# Altium schematic symbol library ARCOM_Resistors.SchLib: 194 symbols (part 1 of 3)
Pins are listed as number, name and electrical type; pins without a type are passive.

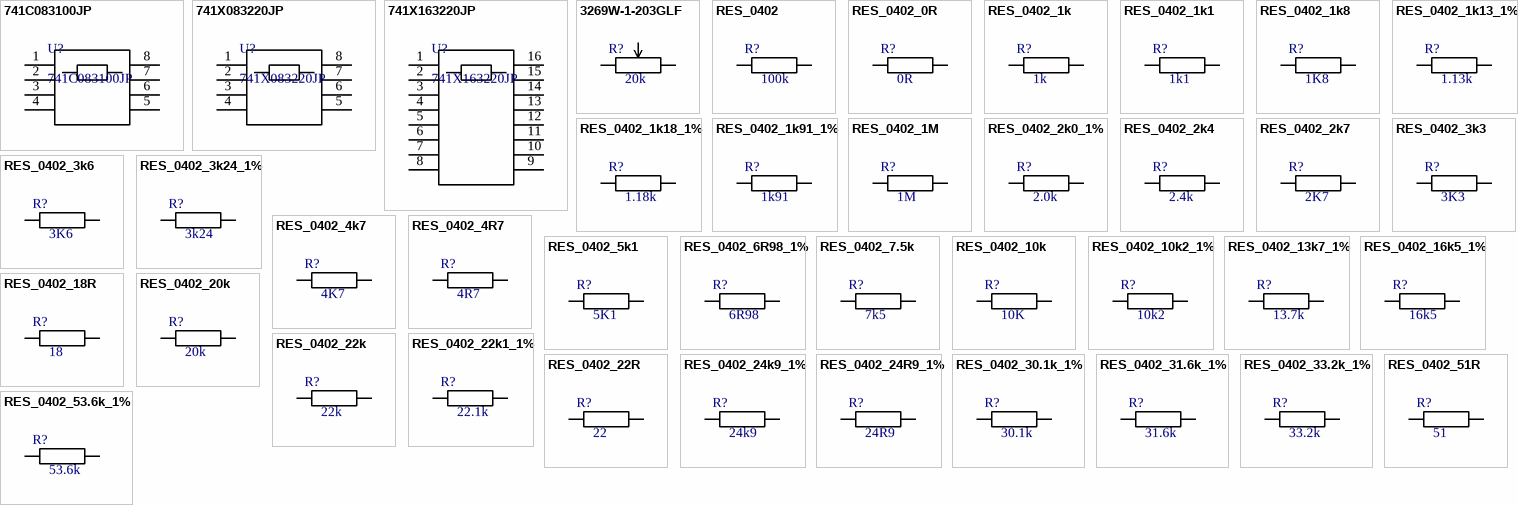
[diagram p0: symbols 741C083100JP to RES_0402_53.6k_1%]

## 741C083100JP
designator U?
Resistor Networks & Arrays 10ohms 5%; Manufacturer: CTS Electronic Components; ComponentLink1Description: Manufacturer; ComponentLink1URL: http://www.ctscorp.com/components/; ComponentLink2Description: Datasheet; ComponentLink2URL: http://www.mouser.com/ds/2/96/008-0335-0-369385.pdf; Manufacturer P/N: 741C083100JP; Part: 741C083100JP; Family: Resistor
footprint 742C083
pins: 1, 2, 3, 4, 5, 6, 7, 8

## 741X083220JP
designator U?
Resistor Networks & Arrays 22ohms 25V 5%; Manufacturer: CTS Electronic Components; ComponentLink1Description: Manufacturer; ComponentLink1URL: http://www.ctscorp.com/components/; ComponentLink2Description: Datasheet; ComponentLink2URL: http://www.mouser.com/ds/2/96/008-0335-0-369385.pdf; Manufacturer P/N: 741X083220JP; Part: 741X083220JP; Family: Resistor
footprint 741X083
pins: 1, 2, 3, 4, 5, 6, 7, 8

## 741X163220JP
designator U?
Resistor Networks & Arrays 22ohms 25V 5%; Manufacturer: CTS Electronic Components; ComponentLink1Description: Manufacturer; ComponentLink1URL: http://www.ctscorp.com/components/; ComponentLink2Description: Datasheet; ComponentLink2URL: http://www.mouser.com/ds/2/96/008-0335-0-369385.pdf; Manufacturer P/N: 741X163220JP; Part: 741X163220JP; Family: Resistor
footprint 741X163
pins: 1, 2, 3, 4, 5, 6, 7, 8, 9, 10, 11, 12, 13, 14, 15, 16

## 3269W-1-203GLF
designator R?  value 20k  (hidden comment: 3269W-1-203GLF)
Manufacturer: Bourns; Part: 20 Kohm, 10%tol.; ComponentLink1Description: Manufacturer; ComponentLink2Description: Datasheet; Manufacturer P/N: 3269W-1-203GLF; Family: Resistor
footprint Bourns_3269W
pins: 1, 2, 3

## RES_0402
designator R?  value 100k  (hidden comment: RES_0402)
Family: Resistor
pins: 1, 2

## RES_0402_0R
designator R?  value 0R  (hidden comment: RES_0402_0R)
Chip Resistor 0402  Size; Manufacturer: Cal-Chip Electronics Inc.; Manufacturer P/N: RM04J000CT; Part: 0 ohm Jumper; ComponentLink1Description: Manufacturer; ComponentLink1URL: http://www.calchip.com; ComponentLink2Description: Datasheet; ComponentLink2URL: https://www.opendatasheets.com/datasheet/rm06j823ct-cal-chip-electronics-25652085.html; Family: Resistor
footprint RESC0402(1005)_L (Chip Resistor, Body 1.0x0.5mm, IPC High Density)
footprint RESC0402(1005)_M (Chip Resistor, Body 1.0x0.5mm, IPC Low Density)
footprint RESC0402(1005)_N (Chip Resistor, Body 1.0x0.5mm, IPC Medium Density)
pins: 1, 2

## RES_0402_1k
designator R?  value 1k  (hidden comment: RES_0402_1k)
Chip Resistor 0402  Size; Manufacturer: Cal-Chip Electronics Inc.; Manufacturer P/N: RM04J102CT; Part: 1 Kohm, 5%tol.; ComponentLink1Description: Manufacturer; ComponentLink1URL: http://www.calchip.com; ComponentLink2Description: Datasheet; ComponentLink2URL: https://www.opendatasheets.com/datasheet/rm06j823ct-cal-chip-electronics-25652085.html; Family: Resistor
footprint RESC0402(1005)_L (Chip Resistor, Body 1.0x0.5mm, IPC High Density)
footprint RESC0402(1005)_M (Chip Resistor, Body 1.0x0.5mm, IPC Low Density)
footprint RESC0402(1005)_N (Chip Resistor, Body 1.0x0.5mm, IPC Medium Density)
pins: 1, 2

## RES_0402_1k1
designator R?  value 1k1  (hidden comment: RES_0402_1k1)
Chip Resistor 0402  Size; Manufacturer: Cal-Chip Electronics Inc.; Manufacturer P/N: RM04J112CT; Part: 1.1 Kohm, 5%tol.; ComponentLink1Description: Manufacturer; ComponentLink1URL: http://www.calchip.com; ComponentLink2Description: Datasheet; ComponentLink2URL: https://www.opendatasheets.com/datasheet/rm06j823ct-cal-chip-electronics-25652085.html; Family: Resistor
footprint RESC0402(1005)_L (Chip Resistor, Body 1.0x0.5mm, IPC High Density)
footprint RESC0402(1005)_M (Chip Resistor, Body 1.0x0.5mm, IPC Low Density)
footprint RESC0402(1005)_N (Chip Resistor, Body 1.0x0.5mm, IPC Medium Density)
pins: 1, 2

## RES_0402_1k8
designator R?  value 1K8  (hidden comment: RES_0402_1k8)
Chip Resistor 0402  Size; Manufacturer: Cal-Chip Electronics Inc.; Manufacturer P/N: RM04J182CT; Part: 1.8 Kohm, 5%tol.; ComponentLink1Description: Manufacturer; ComponentLink1URL: http://www.calchip.com; ComponentLink2Description: Datasheet; ComponentLink2URL: https://www.opendatasheets.com/datasheet/rm06j823ct-cal-chip-electronics-25652085.html; Family: Resistor
footprint RESC0402(1005)_L (Chip Resistor, Body 1.0x0.5mm, IPC High Density)
footprint RESC0402(1005)_M (Chip Resistor, Body 1.0x0.5mm, IPC Low Density)
footprint RESC0402(1005)_N (Chip Resistor, Body 1.0x0.5mm, IPC Medium Density)
pins: 1, 2

## RES_0402_1k13_1%
designator R?, comment value 1.13k  (hidden comment: RES_0402_1k13)
Chip Resistor 0402  Size; Manufacturer: Yageo; Manufacturer P/N: RC0402FR-071K13L; Part: 1.13 Kohm, 1%tol.; ComponentLink1Description: Manufacturer; ComponentLink2Description: Datasheet; Family: Resistor
footprint RESC0402(1005)_L (Chip Resistor, Body 1.0x0.5mm, IPC High Density)
footprint RESC0402(1005)_M (Chip Resistor, Body 1.0x0.5mm, IPC Low Density)
footprint RESC0402(1005)_N (Chip Resistor, Body 1.0x0.5mm, IPC Medium Density)
pins: 1, 2

## RES_0402_1k18_1%
designator R?, comment value 1.18k  (hidden comment: RES_0402_1k18)
Chip Resistor 0402  Size; Manufacturer: Yageo; Manufacturer P/N: RC0402FR-071K18L; Part: 1.18 Kohm, 1%tol.; ComponentLink1Description: Manufacturer; ComponentLink2Description: Datasheet; Family: Resistor
footprint RESC0402(1005)_L (Chip Resistor, Body 1.0x0.5mm, IPC High Density)
footprint RESC0402(1005)_M (Chip Resistor, Body 1.0x0.5mm, IPC Low Density)
footprint RESC0402(1005)_N (Chip Resistor, Body 1.0x0.5mm, IPC Medium Density)
pins: 1, 2

## RES_0402_1k91_1%
designator R?, comment value 1k91  (hidden comment: RES_0402_1.91k)
Chip Resistor 0402  Size; Manufacturer: Cal-Chip Electronics Inc.; Manufacturer P/N: RM04F1911CT-LF; Part: 1.91 Kohm, 1%tol.; .Checked: 20180529; ComponentLink1Description: Manufacturer; ComponentLink1URL: http://www.calchipelectronics.com; ComponentLink2Description: Datasheet; ComponentLink2URL: https://www.opendatasheets.com/datasheet/rm06j823ct-cal-chip-electronics-25652085.html; Family: Resistor; ComponentLink3Description: Datasheet2; ComponentLink3URL: http://www.calchipelectronics.com/pdf/rm_series.pdf
footprint RESC0402(1005)_L (Chip Resistor, Body 1.0x0.5mm, IPC High Density)
footprint RESC0402(1005)_M (Chip Resistor, Body 1.0x0.5mm, IPC Low Density)
footprint RESC0402(1005)_N (Chip Resistor, Body 1.0x0.5mm, IPC Medium Density)
pins: 1, 2

## RES_0402_1M
designator R?  value 1M  (hidden comment: RES_0402_1M)
Chip Resistor 0402  Size; Manufacturer: Cal-Chip Electronics Inc.; Manufacturer P/N: RM04J105CT; Part: 1 MOhm, 5%tol.; ComponentLink1Description: Manufacturer; ComponentLink1URL: http://www.calchip.com; ComponentLink2Description: Datasheet; ComponentLink2URL: https://www.opendatasheets.com/datasheet/rm06j823ct-cal-chip-electronics-25652085.html; Family: Resistor
footprint RESC0402(1005)_L (Chip Resistor, Body 1.0x0.5mm, IPC High Density)
footprint RESC0402(1005)_M (Chip Resistor, Body 1.0x0.5mm, IPC Low Density)
footprint RESC0402(1005)_N (Chip Resistor, Body 1.0x0.5mm, IPC Medium Density)
pins: 1, 2

## RES_0402_2k0_1%
designator R?  value 2.0k  (hidden comment: RES_0402_2k0_1%)
Chip Resistor 0402  Size; Manufacturer P/N: RC0402FR-072KL; Part: 2.0 Kohm, 1%tol.; ComponentLink1Description: Manufacturer; ComponentLink2Description: Datasheet; Family: Resistor
footprint RESC0402(1005)_L (Chip Resistor, Body 1.0x0.5mm, IPC High Density)
footprint RESC0402(1005)_M (Chip Resistor, Body 1.0x0.5mm, IPC Low Density)
footprint RESC0402(1005)_N (Chip Resistor, Body 1.0x0.5mm, IPC Medium Density)
pins: 1, 2

## RES_0402_2k4
designator R?  value 2.4k  (hidden comment: RES_0402_2k4)
Chip Resistor 0402  Size; Manufacturer: Cal-Chip Electronics Inc.; Manufacturer P/N: RM04J242CT; Part: 2.4 kOhm, 5%tol.; ComponentLink1Description: Manufacturer; ComponentLink1URL: http://www.calchip.com; ComponentLink2Description: Datasheet; ComponentLink2URL: https://www.opendatasheets.com/datasheet/rm06j823ct-cal-chip-electronics-25652085.html; Family: Resistor
footprint RESC0402(1005)_L (Chip Resistor, Body 1.0x0.5mm, IPC High Density)
footprint RESC0402(1005)_M (Chip Resistor, Body 1.0x0.5mm, IPC Low Density)
footprint RESC0402(1005)_N (Chip Resistor, Body 1.0x0.5mm, IPC Medium Density)
pins: 1, 2

## RES_0402_2k7
designator R?  value 2K7  (hidden comment: RES_0402_2k7)
Chip Resistor 0402  Size; Manufacturer: Cal-Chip Electronics Inc.; Manufacturer P/N: RM04J272CT; Part: 2.7 Kohm, 5%tol.; ComponentLink1Description: Manufacturer; ComponentLink1URL: http://www.calchip.com; ComponentLink2Description: Datasheet; ComponentLink2URL: https://www.opendatasheets.com/datasheet/rm06j823ct-cal-chip-electronics-25652085.html; Family: Resistor
footprint RESC0402(1005)_L (Chip Resistor, Body 1.0x0.5mm, IPC High Density)
footprint RESC0402(1005)_M (Chip Resistor, Body 1.0x0.5mm, IPC Low Density)
footprint RESC0402(1005)_N (Chip Resistor, Body 1.0x0.5mm, IPC Medium Density)
pins: 1, 2

## RES_0402_3k3
designator R?  value 3K3  (hidden comment: RES_0402_3k3)
Chip Resistor 0402  Size; Manufacturer: Cal-Chip Electronics Inc.; Manufacturer P/N: RM04J332CT; Part: 3.3 Kohm, 5%tol.; ComponentLink1Description: Manufacturer; ComponentLink1URL: http://www.calchip.com; ComponentLink2Description: Datasheet; ComponentLink2URL: https://www.opendatasheets.com/datasheet/rm06j823ct-cal-chip-electronics-25652085.html; Family: Resistor
footprint RESC0402(1005)_L (Chip Resistor, Body 1.0x0.5mm, IPC High Density)
footprint RESC0402(1005)_M (Chip Resistor, Body 1.0x0.5mm, IPC Low Density)
footprint RESC0402(1005)_N (Chip Resistor, Body 1.0x0.5mm, IPC Medium Density)
pins: 1, 2

## RES_0402_3k6
designator R?  value 3K6  (hidden comment: RES_0402_3k6)
Chip Resistor 0402  Size; Manufacturer: Cal-Chip Electronics Inc.; Manufacturer P/N: RM04J362CT; Part: 3.6 Kohm, 5%tol.; ComponentLink1Description: Manufacturer; ComponentLink1URL: http://www.calchip.com; ComponentLink2Description: Datasheet; ComponentLink2URL: https://www.opendatasheets.com/datasheet/rm06j823ct-cal-chip-electronics-25652085.html; Family: Resistor
footprint RESC0402(1005)_L (Chip Resistor, Body 1.0x0.5mm, IPC High Density)
footprint RESC0402(1005)_M (Chip Resistor, Body 1.0x0.5mm, IPC Low Density)
footprint RESC0402(1005)_N (Chip Resistor, Body 1.0x0.5mm, IPC Medium Density)
pins: 1, 2

## RES_0402_3k24_1%
designator R?, comment value 3k24  (hidden comment: RES_0402_3.24k)
Chip Resistor 0402  Size; Manufacturer: Cal-Chip Electronics Inc.; Manufacturer P/N: RM04F3242CT-LF; Part: 3.24 Kohm, 1%tol.; .Checked: 20180221; ComponentLink1Description: Manufacturer; ComponentLink1URL: http://www.calchipelectronics.com; ComponentLink2Description: Datasheet; ComponentLink2URL: https://www.opendatasheets.com/datasheet/rm06j823ct-cal-chip-electronics-25652085.html; Family: Resistor; ComponentLink3Description: Datasheet2; ComponentLink3URL: http://www.calchipelectronics.com/pdf/rm_series.pdf
footprint RESC0402(1005)_L (Chip Resistor, Body 1.0x0.5mm, IPC High Density)
footprint RESC0402(1005)_M (Chip Resistor, Body 1.0x0.5mm, IPC Low Density)
footprint RESC0402(1005)_N (Chip Resistor, Body 1.0x0.5mm, IPC Medium Density)
pins: 1, 2

## RES_0402_4k7
designator R?  value 4K7  (hidden comment: RES_0402_4k7)
Chip Resistor 0402  Size; Manufacturer: Cal-Chip Electronics Inc.; Manufacturer P/N: RM04J472CT; Part: 4.7 Kohm, 5%tol.; ComponentLink1Description: Manufacturer; ComponentLink1URL: http://www.calchip.com; ComponentLink2Description: Datasheet; ComponentLink2URL: https://www.opendatasheets.com/datasheet/rm06j823ct-cal-chip-electronics-25652085.html; Family: Resistor
footprint RESC0402(1005)_L (Chip Resistor, Body 1.0x0.5mm, IPC High Density)
footprint RESC0402(1005)_M (Chip Resistor, Body 1.0x0.5mm, IPC Low Density)
footprint RESC0402(1005)_N (Chip Resistor, Body 1.0x0.5mm, IPC Medium Density)
pins: 1, 2

## RES_0402_4R7
designator R?  value 4R7  (hidden comment: RES_0402_4R7)
Chip Resistor 0402  Size; Manufacturer: Cal-Chip Electronics Inc.; Manufacturer P/N: RM04J4R7CT; Part: 4.7 Ohm, 5%tol.; ComponentLink1Description: Manufacturer; ComponentLink1URL: http://www.calchip.com; ComponentLink2Description: Datasheet; ComponentLink2URL: https://www.opendatasheets.com/datasheet/rm06j823ct-cal-chip-electronics-25652085.html; Family: Resistor
footprint RESC0402(1005)_L (Chip Resistor, Body 1.0x0.5mm, IPC High Density)
footprint RESC0402(1005)_M (Chip Resistor, Body 1.0x0.5mm, IPC Low Density)
footprint RESC0402(1005)_N (Chip Resistor, Body 1.0x0.5mm, IPC Medium Density)
pins: 1, 2

## RES_0402_5k1
designator R?  value 5K1  (hidden comment: RES_0402_5k1)
Chip Resistor 0402  Size; Manufacturer: Cal-Chip Electronics Inc.; Manufacturer P/N: RM04J512CT; Part: 5.1 Kohm, 5%tol.; ComponentLink1Description: Manufacturer; ComponentLink1URL: http://www.calchip.com; ComponentLink2Description: Datasheet; ComponentLink2URL: https://www.opendatasheets.com/datasheet/rm06j823ct-cal-chip-electronics-25652085.html; Family: Resistor
footprint RESC0402(1005)_L (Chip Resistor, Body 1.0x0.5mm, IPC High Density)
footprint RESC0402(1005)_M (Chip Resistor, Body 1.0x0.5mm, IPC Low Density)
footprint RESC0402(1005)_N (Chip Resistor, Body 1.0x0.5mm, IPC Medium Density)
pins: 1, 2

## RES_0402_6R98_1%
designator R?, comment value 6R98  (hidden comment: RES_0402_6R98)
Chip Resistor 0402  Size; Manufacturer: Cal-Chip Electronics Inc.; Manufacturer P/N: RM04F6R98CT-LF; Part: 6.98 ohm, 1%tol.; ComponentLink1Description: Manufacturer; ComponentLink1URL: http://www.calchip.com; ComponentLink2Description: Datasheet; ComponentLink2URL: https://www.opendatasheets.com/datasheet/rm06j823ct-cal-chip-electronics-25652085.html; Family: Resistor
footprint RESC0402(1005)_L (Chip Resistor, Body 1.0x0.5mm, IPC High Density)
footprint RESC0402(1005)_M (Chip Resistor, Body 1.0x0.5mm, IPC Low Density)
footprint RESC0402(1005)_N (Chip Resistor, Body 1.0x0.5mm, IPC Medium Density)
pins: 1, 2

## RES_0402_7.5k
designator R?  value 7k5  (hidden comment: RES_0402_7.5k)
Chip Resistor 0402  Size; Manufacturer: Cal-Chip Electronics Inc.; Manufacturer P/N: RM04J752CT; Part: 7.5 kOhm, 5%tol.; ComponentLink1Description: Manufacturer; ComponentLink1URL: http://www.calchip.com; ComponentLink2Description: Datasheet; ComponentLink2URL: https://www.opendatasheets.com/datasheet/rm06j823ct-cal-chip-electronics-25652085.html; Family: Resistor
footprint RESC0402(1005)_L (Chip Resistor, Body 1.0x0.5mm, IPC High Density)
footprint RESC0402(1005)_M (Chip Resistor, Body 1.0x0.5mm, IPC Low Density)
footprint RESC0402(1005)_N (Chip Resistor, Body 1.0x0.5mm, IPC Medium Density)
pins: 1, 2

## RES_0402_10k
designator R?  value 10K  (hidden comment: RES_0402_10k)
Chip Resistor 0402  Size; Manufacturer: Cal-Chip Electronics Inc.; Manufacturer P/N: RM04J103CT; Part: 10 Kohm, 5%tol.; ComponentLink1Description: Manufacturer; ComponentLink1URL: http://www.calchip.com; ComponentLink2Description: Datasheet; ComponentLink2URL: https://www.opendatasheets.com/datasheet/rm06j823ct-cal-chip-electronics-25652085.html; Family: Resistor
footprint RESC0402(1005)_L (Chip Resistor, Body 1.0x0.5mm, IPC High Density)
footprint RESC0402(1005)_M (Chip Resistor, Body 1.0x0.5mm, IPC Low Density)
footprint RESC0402(1005)_N (Chip Resistor, Body 1.0x0.5mm, IPC Medium Density)
pins: 1, 2

## RES_0402_10k2_1%
designator R?, comment value 10k2  (hidden comment: RES_0402_10.2k)
Chip Resistor 0402  Size; Manufacturer: Cal-Chip Electronics Inc.; Manufacturer P/N: RM04F1022CT-LF; Part: 10.2 Kohm, 1%tol.; .Checked: 20180221; ComponentLink1Description: Manufacturer; ComponentLink1URL: http://www.calchipelectronics.com; ComponentLink2Description: Datasheet; ComponentLink2URL: https://www.opendatasheets.com/datasheet/rm06j823ct-cal-chip-electronics-25652085.html; Family: Resistor; ComponentLink3Description: Datasheet2; ComponentLink3URL: http://www.calchipelectronics.com/pdf/rm_series.pdf
footprint RESC0402(1005)_L (Chip Resistor, Body 1.0x0.5mm, IPC High Density)
footprint RESC0402(1005)_M (Chip Resistor, Body 1.0x0.5mm, IPC Low Density)
footprint RESC0402(1005)_N (Chip Resistor, Body 1.0x0.5mm, IPC Medium Density)
pins: 1, 2

## RES_0402_13k7_1%
designator R?, comment value 13.7k  (hidden comment: RES_0402_13k7)
Chip Resistor 0402  Size; Manufacturer: Cal-Chip Electronics Inc.; Manufacturer P/N: RM04F1372CT-LF; Part: 13.7 Kohm, 1%tol.; ComponentLink1Description: Manufacturer; ComponentLink1URL: http://www.calchip.com; ComponentLink2Description: Datasheet; ComponentLink2URL: https://www.opendatasheets.com/datasheet/rm06j823ct-cal-chip-electronics-25652085.html; Family: Resistor
footprint RESC0402(1005)_L (Chip Resistor, Body 1.0x0.5mm, IPC High Density)
footprint RESC0402(1005)_M (Chip Resistor, Body 1.0x0.5mm, IPC Low Density)
footprint RESC0402(1005)_N (Chip Resistor, Body 1.0x0.5mm, IPC Medium Density)
pins: 1, 2

## RES_0402_16k5_1%
designator R?, comment value 16k5  (hidden comment: RES_0402_16.5k)
Chip Resistor 0402  Size; Manufacturer: Cal-Chip Electronics Inc.; Manufacturer P/N: RM04F1652CT-LF; Part: 16.5 Kohm, 1%tol.; .Checked: 20180221; ComponentLink1Description: Manufacturer; ComponentLink1URL: http://www.calchipelectronics.com; ComponentLink2Description: Datasheet; ComponentLink2URL: https://www.opendatasheets.com/datasheet/rm06j823ct-cal-chip-electronics-25652085.html; Family: Resistor; ComponentLink3Description: Datasheet2; ComponentLink3URL: http://www.calchipelectronics.com/pdf/rm_series.pdf
footprint RESC0402(1005)_L (Chip Resistor, Body 1.0x0.5mm, IPC High Density)
footprint RESC0402(1005)_M (Chip Resistor, Body 1.0x0.5mm, IPC Low Density)
footprint RESC0402(1005)_N (Chip Resistor, Body 1.0x0.5mm, IPC Medium Density)
pins: 1, 2

## RES_0402_18R
designator R?  value 18  (hidden comment: RES_0402_18R)
Chip Resistor 0402  Size; Manufacturer: Cal-Chip Electronics Inc.; Manufacturer P/N: RM04J180CT; Part: 18 Ohm, 5%tol.; ComponentLink1Description: Manufacturer; ComponentLink1URL: http://www.calchip.com; ComponentLink2Description: Datasheet; ComponentLink2URL: https://www.opendatasheets.com/datasheet/rm06j823ct-cal-chip-electronics-25652085.html; Family: Resistor
footprint RESC0402(1005)_L (Chip Resistor, Body 1.0x0.5mm, IPC High Density)
footprint RESC0402(1005)_M (Chip Resistor, Body 1.0x0.5mm, IPC Low Density)
footprint RESC0402(1005)_N (Chip Resistor, Body 1.0x0.5mm, IPC Medium Density)
pins: 1, 2

## RES_0402_20k
designator R?  value 20k  (hidden comment: RES_0402_20k)
Chip Resistor 0402  Size; Manufacturer: Cal-Chip Electronics Inc.; Manufacturer P/N: RM04J203CT; Part: 20 Kohm, 5%tol.; ComponentLink1Description: Manufacturer; ComponentLink1URL: http://www.calchip.com; ComponentLink2Description: Datasheet; ComponentLink2URL: https://www.opendatasheets.com/datasheet/rm06j823ct-cal-chip-electronics-25652085.html; Family: Resistor
footprint RESC0402(1005)_L (Chip Resistor, Body 1.0x0.5mm, IPC High Density)
footprint RESC0402(1005)_M (Chip Resistor, Body 1.0x0.5mm, IPC Low Density)
footprint RESC0402(1005)_N (Chip Resistor, Body 1.0x0.5mm, IPC Medium Density)
pins: 1, 2

## RES_0402_22k
designator R?  value 22k  (hidden comment: RES_0402_22k)
Chip Resistor 0402  Size; Manufacturer: Cal-Chip Electronics Inc.; Manufacturer P/N: RM04J223CT; Part: 22 kOhm, 5%tol.; ComponentLink1Description: Manufacturer; ComponentLink1URL: http://www.calchip.com; ComponentLink2Description: Datasheet; ComponentLink2URL: https://www.opendatasheets.com/datasheet/rm06j823ct-cal-chip-electronics-25652085.html; Family: Resistor
footprint RESC0402(1005)_L (Chip Resistor, Body 1.0x0.5mm, IPC High Density)
footprint RESC0402(1005)_M (Chip Resistor, Body 1.0x0.5mm, IPC Low Density)
footprint RESC0402(1005)_N (Chip Resistor, Body 1.0x0.5mm, IPC Medium Density)
pins: 1, 2

## RES_0402_22k1_1%
designator R?, comment value 22.1k  (hidden comment: RES_0402_22k1)
Chip Resistor 0402  Size; Manufacturer: Cal-Chip Electronics Inc.; Manufacturer P/N: RM04F2212CT-LF; Part: 22.1 Kohm, 1%tol.; ComponentLink1Description: Manufacturer; ComponentLink1URL: http://www.calchip.com; ComponentLink2Description: Datasheet; ComponentLink2URL: https://www.opendatasheets.com/datasheet/rm06j823ct-cal-chip-electronics-25652085.html; Family: Resistor
footprint RESC0402(1005)_L (Chip Resistor, Body 1.0x0.5mm, IPC High Density)
footprint RESC0402(1005)_M (Chip Resistor, Body 1.0x0.5mm, IPC Low Density)
footprint RESC0402(1005)_N (Chip Resistor, Body 1.0x0.5mm, IPC Medium Density)
pins: 1, 2

## RES_0402_22R
designator R?  value 22  (hidden comment: RES_0402_22R)
Chip Resistor 0402  Size; Manufacturer: Cal-Chip Electronics Inc.; Manufacturer P/N: RM04J220CT; Part: 22 Ohm, 5%tol.; ComponentLink1Description: Manufacturer; ComponentLink1URL: http://www.calchip.com; ComponentLink2Description: Datasheet; ComponentLink2URL: https://www.opendatasheets.com/datasheet/rm06j823ct-cal-chip-electronics-25652085.html; Family: Resistor
footprint RESC0402(1005)_L (Chip Resistor, Body 1.0x0.5mm, IPC High Density)
footprint RESC0402(1005)_M (Chip Resistor, Body 1.0x0.5mm, IPC Low Density)
footprint RESC0402(1005)_N (Chip Resistor, Body 1.0x0.5mm, IPC Medium Density)
pins: 1, 2

## RES_0402_24k9_1%
designator R?  value 24k9  (hidden comment: RES_0402_24k9_1%)
Chip Resistor 0402  Size; Manufacturer P/N: RM04F2492CT-LF; Part: 24.9 Kohm, 1%tol.; ComponentLink1Description: Manufacturer; ComponentLink2Description: Datasheet; Family: Resistor
footprint RESC0402(1005)_L (Chip Resistor, Body 1.0x0.5mm, IPC High Density)
footprint RESC0402(1005)_M (Chip Resistor, Body 1.0x0.5mm, IPC Low Density)
footprint RESC0402(1005)_N (Chip Resistor, Body 1.0x0.5mm, IPC Medium Density)
pins: 1, 2

## RES_0402_24R9_1%
designator R?, comment value 24R9  (hidden comment: RES_0402_24R9)
Chip Resistor 0402  Size; Manufacturer: Cal-Chip Electronics Inc.; Manufacturer P/N: RM04F24R9CT-LF; Part: 24.9 ohm, 1%tol.; ComponentLink1Description: Manufacturer; ComponentLink1URL: http://www.calchip.com; ComponentLink2Description: Datasheet; ComponentLink2URL: https://www.opendatasheets.com/datasheet/rm06j823ct-cal-chip-electronics-25652085.html; Family: Resistor
footprint RESC0402(1005)_L (Chip Resistor, Body 1.0x0.5mm, IPC High Density)
footprint RESC0402(1005)_M (Chip Resistor, Body 1.0x0.5mm, IPC Low Density)
footprint RESC0402(1005)_N (Chip Resistor, Body 1.0x0.5mm, IPC Medium Density)
pins: 1, 2

## RES_0402_30.1k_1%
designator R?, comment value 30.1k  (hidden comment: RES_0402_30.1k)
Chip Resistor 0402  Size; Manufacturer: Cal-Chip Electronics Inc.; Manufacturer P/N: RM04F3012CT-LF; Part: 30.1 Kohm, 1%tol.; ComponentLink1Description: Manufacturer; ComponentLink1URL: http://www.calchip.com; ComponentLink2Description: Datasheet; ComponentLink2URL: https://www.opendatasheets.com/datasheet/rm06j823ct-cal-chip-electronics-25652085.html; Family: Resistor
footprint RESC0402(1005)_L (Chip Resistor, Body 1.0x0.5mm, IPC High Density)
footprint RESC0402(1005)_M (Chip Resistor, Body 1.0x0.5mm, IPC Low Density)
footprint RESC0402(1005)_N (Chip Resistor, Body 1.0x0.5mm, IPC Medium Density)
pins: 1, 2

## RES_0402_31.6k_1%
designator R?, comment value 31.6k  (hidden comment: RES_0402_31.6k)
Chip Resistor 0402  Size; Manufacturer: Cal-Chip Electronics Inc.; Manufacturer P/N: RM04F3162CT-LF; Part: 31.6 Kohm, 1%tol.; ComponentLink1Description: Manufacturer; ComponentLink1URL: http://www.calchip.com; ComponentLink2Description: Datasheet; ComponentLink2URL: https://www.opendatasheets.com/datasheet/rm06j823ct-cal-chip-electronics-25652085.html; Family: Resistor
footprint RESC0402(1005)_L (Chip Resistor, Body 1.0x0.5mm, IPC High Density)
footprint RESC0402(1005)_M (Chip Resistor, Body 1.0x0.5mm, IPC Low Density)
footprint RESC0402(1005)_N (Chip Resistor, Body 1.0x0.5mm, IPC Medium Density)
pins: 1, 2

## RES_0402_33.2k_1%
designator R?, comment value 33.2k  (hidden comment: RES_0402_33.2k)
Chip Resistor 0402  Size; Manufacturer: Cal-Chip Electronics Inc.; Manufacturer P/N: RM04F3322CT-LF; Part: 33.2 Kohm, 1%tol.; ComponentLink1Description: Manufacturer; ComponentLink1URL: http://www.calchip.com; ComponentLink2Description: Datasheet; ComponentLink2URL: https://www.opendatasheets.com/datasheet/rm06j823ct-cal-chip-electronics-25652085.html; Family: Resistor
footprint RESC0402(1005)_L (Chip Resistor, Body 1.0x0.5mm, IPC High Density)
footprint RESC0402(1005)_M (Chip Resistor, Body 1.0x0.5mm, IPC Low Density)
footprint RESC0402(1005)_N (Chip Resistor, Body 1.0x0.5mm, IPC Medium Density)
pins: 1, 2

## RES_0402_51R
designator R?  value 51  (hidden comment: RES_0402_51R)
Chip Resistor 0402  Size; Manufacturer: Cal-Chip Electronics Inc.; Manufacturer P/N: RM04J510CT; Part: 51 Ohm, 5%tol.; ComponentLink1Description: Manufacturer; ComponentLink1URL: http://www.calchip.com; ComponentLink2Description: Datasheet; ComponentLink2URL: https://www.opendatasheets.com/datasheet/rm06j823ct-cal-chip-electronics-25652085.html; Family: Resistor
footprint RESC0402(1005)_L (Chip Resistor, Body 1.0x0.5mm, IPC High Density)
footprint RESC0402(1005)_M (Chip Resistor, Body 1.0x0.5mm, IPC Low Density)
footprint RESC0402(1005)_N (Chip Resistor, Body 1.0x0.5mm, IPC Medium Density)
pins: 1, 2

## RES_0402_53.6k_1%
designator R?, comment value 53.6k  (hidden comment: RES_0402_53.6k)
Chip Resistor 0402  Size; Manufacturer: Cal-Chip Electronics Inc.; Manufacturer P/N: RM04F5362CT-LF; Part: 53.6 Kohm, 1%tol.; ComponentLink1Description: Manufacturer; ComponentLink1URL: http://www.calchip.com; ComponentLink2Description: Datasheet; ComponentLink2URL: https://www.opendatasheets.com/datasheet/rm06j823ct-cal-chip-electronics-25652085.html; Family: Resistor
footprint RESC0402(1005)_L (Chip Resistor, Body 1.0x0.5mm, IPC High Density)
footprint RESC0402(1005)_M (Chip Resistor, Body 1.0x0.5mm, IPC Low Density)
footprint RESC0402(1005)_N (Chip Resistor, Body 1.0x0.5mm, IPC Medium Density)
pins: 1, 2

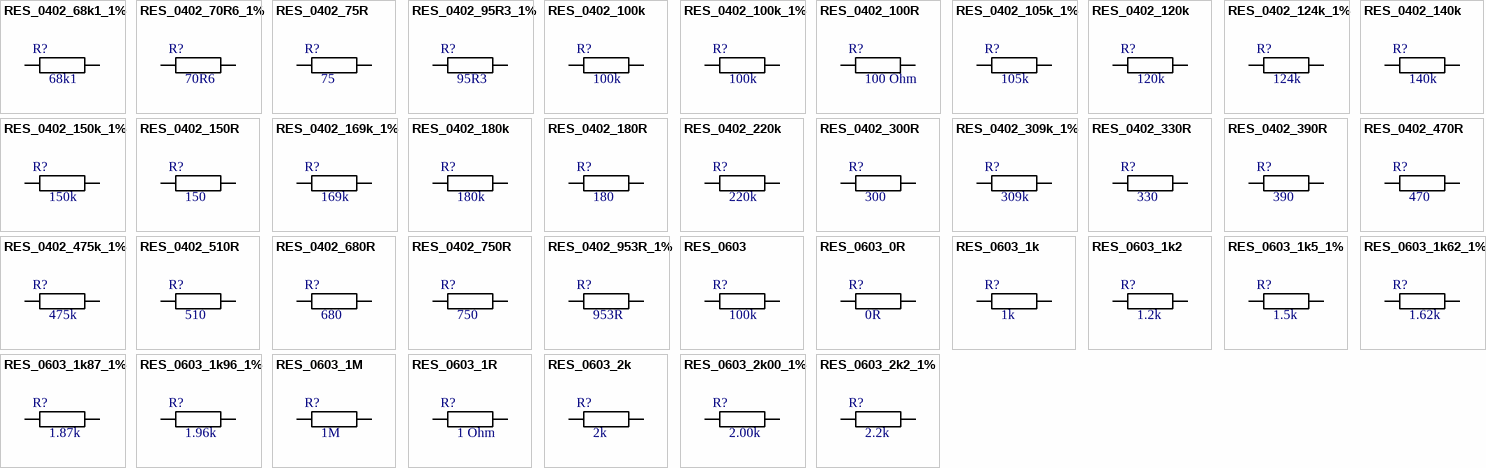
[diagram p1: symbols RES_0402_68k1_1% to RES_0603_2k2_1%]

## RES_0402_68k1_1%
designator R?, comment value 68k1  (hidden comment: RES_0402_68.1k)
Chip Resistor 0402  Size; Manufacturer: Cal-Chip Electronics Inc.; Manufacturer P/N: RM04F6812CT-LF; Part: 68.1 Kohm, 1%tol.; .Checked: 20180221; ComponentLink1Description: Manufacturer; ComponentLink1URL: http://www.calchipelectronics.com; ComponentLink2Description: Datasheet; ComponentLink2URL: https://www.opendatasheets.com/datasheet/rm06j823ct-cal-chip-electronics-25652085.html; Family: Resistor; ComponentLink3Description: Datasheet2; ComponentLink3URL: http://www.calchipelectronics.com/pdf/rm_series.pdf
footprint RESC0402(1005)_L (Chip Resistor, Body 1.0x0.5mm, IPC High Density)
footprint RESC0402(1005)_M (Chip Resistor, Body 1.0x0.5mm, IPC Low Density)
footprint RESC0402(1005)_N (Chip Resistor, Body 1.0x0.5mm, IPC Medium Density)
pins: 1, 2

## RES_0402_70R6_1%
designator R?, comment value 70R6  (hidden comment: RES_0402_70R6)
Chip Resistor 0402  Size; Manufacturer: Cal-Chip Electronics Inc.; Manufacturer P/N: RM04F70R6CT-LF; Part: 70.6 ohm, 1%tol.; ComponentLink1Description: Manufacturer; ComponentLink1URL: http://www.calchip.com; ComponentLink2Description: Datasheet; ComponentLink2URL: https://www.opendatasheets.com/datasheet/rm06j823ct-cal-chip-electronics-25652085.html; Family: Resistor
footprint RESC0402(1005)_L (Chip Resistor, Body 1.0x0.5mm, IPC High Density)
footprint RESC0402(1005)_M (Chip Resistor, Body 1.0x0.5mm, IPC Low Density)
footprint RESC0402(1005)_N (Chip Resistor, Body 1.0x0.5mm, IPC Medium Density)
pins: 1, 2

## RES_0402_75R
designator R?  value 75  (hidden comment: RES_0402_75R)
Chip Resistor 0402  Size; Manufacturer: Cal-Chip Electronics Inc.; Manufacturer P/N: RM04J750CT; Part: 75 Ohm, 5%tol.; ComponentLink1Description: Manufacturer; ComponentLink1URL: http://www.calchip.com; ComponentLink2Description: Datasheet; ComponentLink2URL: https://www.opendatasheets.com/datasheet/rm06j823ct-cal-chip-electronics-25652085.html; Family: Resistor
footprint RESC0402(1005)_L (Chip Resistor, Body 1.0x0.5mm, IPC High Density)
footprint RESC0402(1005)_M (Chip Resistor, Body 1.0x0.5mm, IPC Low Density)
footprint RESC0402(1005)_N (Chip Resistor, Body 1.0x0.5mm, IPC Medium Density)
pins: 1, 2

## RES_0402_95R3_1%
designator R?, comment value 95R3  (hidden comment: RES_0402_95R3)
Chip Resistor 0402  Size; Manufacturer: Cal-Chip Electronics Inc.; Manufacturer P/N: RM04F95R3CT-LF; Part: 95.3 ohm, 1%tol.; ComponentLink1Description: Manufacturer; ComponentLink1URL: http://www.calchip.com; ComponentLink2Description: Datasheet; ComponentLink2URL: https://www.opendatasheets.com/datasheet/rm06j823ct-cal-chip-electronics-25652085.html; Family: Resistor
footprint RESC0402(1005)_L (Chip Resistor, Body 1.0x0.5mm, IPC High Density)
footprint RESC0402(1005)_M (Chip Resistor, Body 1.0x0.5mm, IPC Low Density)
footprint RESC0402(1005)_N (Chip Resistor, Body 1.0x0.5mm, IPC Medium Density)
pins: 1, 2

## RES_0402_100k
designator R?  value 100k  (hidden comment: RES_0402_100k)
Chip Resistor 0402  Size; Manufacturer: Cal-Chip Electronics Inc.; Manufacturer P/N: RM04J104CT; Part: 100 kOhm, 5%tol.; ComponentLink1Description: Manufacturer; ComponentLink1URL: http://www.calchip.com; ComponentLink2Description: Datasheet; ComponentLink2URL: https://www.opendatasheets.com/datasheet/rm06j823ct-cal-chip-electronics-25652085.html; Family: Resistor
footprint RESC0402(1005)_L (Chip Resistor, Body 1.0x0.5mm, IPC High Density)
footprint RESC0402(1005)_M (Chip Resistor, Body 1.0x0.5mm, IPC Low Density)
footprint RESC0402(1005)_N (Chip Resistor, Body 1.0x0.5mm, IPC Medium Density)
pins: 1, 2

## RES_0402_100k_1%
designator R?  value 100k  (hidden comment: RES_0402_100k_1%)
Chip Resistor 0402  Size; Manufacturer P/N: RC0402FR-07100KL; Part: 100 Kohm, 1%tol.; ComponentLink1Description: Manufacturer; ComponentLink2Description: Datasheet; Family: Resistor
footprint RESC0402(1005)_L (Chip Resistor, Body 1.0x0.5mm, IPC High Density)
footprint RESC0402(1005)_M (Chip Resistor, Body 1.0x0.5mm, IPC Low Density)
footprint RESC0402(1005)_N (Chip Resistor, Body 1.0x0.5mm, IPC Medium Density)
pins: 1, 2

## RES_0402_100R
designator R?  value 100 Ohm  (hidden comment: RES_0402_100R)
Chip Resistor 0402  Size; Manufacturer: Cal-Chip Electronics Inc.; Manufacturer P/N: RM04J101CT; Part: 100 Ohm, 5%tol.; ComponentLink1Description: Manufacturer; ComponentLink1URL: http://www.calchip.com; ComponentLink2Description: Datasheet; ComponentLink2URL: https://www.opendatasheets.com/datasheet/rm06j823ct-cal-chip-electronics-25652085.html; Family: Resistor
footprint RESC0402(1005)_L (Chip Resistor, Body 1.0x0.5mm, IPC High Density)
footprint RESC0402(1005)_M (Chip Resistor, Body 1.0x0.5mm, IPC Low Density)
footprint RESC0402(1005)_N (Chip Resistor, Body 1.0x0.5mm, IPC Medium Density)
pins: 1, 2

## RES_0402_105k_1%
designator R?, comment value 105k  (hidden comment: RES_0402_105k)
Chip Resistor 0402  Size; Manufacturer: Cal-Chip Electronics Inc.; Manufacturer P/N: RM04F1053CT-LF; Part: 105 Kohm, 1%tol.; ComponentLink1Description: Manufacturer; ComponentLink1URL: http://www.calchip.com; ComponentLink2Description: Datasheet; ComponentLink2URL: https://www.opendatasheets.com/datasheet/rm06j823ct-cal-chip-electronics-25652085.html; Family: Resistor
footprint RESC0402(1005)_L (Chip Resistor, Body 1.0x0.5mm, IPC High Density)
footprint RESC0402(1005)_M (Chip Resistor, Body 1.0x0.5mm, IPC Low Density)
footprint RESC0402(1005)_N (Chip Resistor, Body 1.0x0.5mm, IPC Medium Density)
pins: 1, 2

## RES_0402_120k
designator R?  value 120k  (hidden comment: RES_0402_120k)
Chip Resistor 0402  Size; Manufacturer: Cal-Chip Electronics Inc.; Manufacturer P/N: RM04J124CT; Part: 120 kOhm, 5%tol.; ComponentLink1Description: Manufacturer; ComponentLink1URL: http://www.calchip.com; ComponentLink2Description: Datasheet; ComponentLink2URL: https://www.opendatasheets.com/datasheet/rm06j823ct-cal-chip-electronics-25652085.html; Family: Resistor
footprint RESC0402(1005)_L (Chip Resistor, Body 1.0x0.5mm, IPC High Density)
footprint RESC0402(1005)_M (Chip Resistor, Body 1.0x0.5mm, IPC Low Density)
footprint RESC0402(1005)_N (Chip Resistor, Body 1.0x0.5mm, IPC Medium Density)
pins: 1, 2

## RES_0402_124k_1%
designator R?, comment value 124k  (hidden comment: RES_0402_124k)
Chip Resistor 0402  Size; Manufacturer: Cal-Chip Electronics Inc.; Manufacturer P/N: RM04F1243CT-LF; Part: 124 Kohm, 1%tol.; ComponentLink1Description: Manufacturer; ComponentLink1URL: http://www.calchip.com; ComponentLink2Description: Datasheet; ComponentLink2URL: https://www.opendatasheets.com/datasheet/rm06j823ct-cal-chip-electronics-25652085.html; Family: Resistor
footprint RESC0402(1005)_L (Chip Resistor, Body 1.0x0.5mm, IPC High Density)
footprint RESC0402(1005)_M (Chip Resistor, Body 1.0x0.5mm, IPC Low Density)
footprint RESC0402(1005)_N (Chip Resistor, Body 1.0x0.5mm, IPC Medium Density)
pins: 1, 2

## RES_0402_140k
designator R?  value 140k  (hidden comment: RES_0402_140k)
Chip Resistor 0402  Size; Manufacturer: Cal-Chip Electronics Inc.; Manufacturer P/N: RM04J144CT; Part: 140 kOhm, 5%tol.; ComponentLink1Description: Manufacturer; ComponentLink1URL: http://www.calchip.com; ComponentLink2Description: Datasheet; ComponentLink2URL: https://www.opendatasheets.com/datasheet/rm06j823ct-cal-chip-electronics-25652085.html; Family: Resistor
footprint RESC0402(1005)_L (Chip Resistor, Body 1.0x0.5mm, IPC High Density)
footprint RESC0402(1005)_M (Chip Resistor, Body 1.0x0.5mm, IPC Low Density)
footprint RESC0402(1005)_N (Chip Resistor, Body 1.0x0.5mm, IPC Medium Density)
pins: 1, 2

## RES_0402_150k_1%
designator R?, comment value 150k  (hidden comment: RES_0402_150k)
Chip Resistor 0402  Size; Manufacturer: Cal-Chip Electronics Inc.; Manufacturer P/N: RM04F1503CT-LF; Part: 150 Kohm, 1%tol.; ComponentLink1Description: Manufacturer; ComponentLink1URL: http://www.calchip.com; ComponentLink2Description: Datasheet; ComponentLink2URL: https://www.opendatasheets.com/datasheet/rm06j823ct-cal-chip-electronics-25652085.html; Family: Resistor
footprint RESC0402(1005)_L (Chip Resistor, Body 1.0x0.5mm, IPC High Density)
footprint RESC0402(1005)_M (Chip Resistor, Body 1.0x0.5mm, IPC Low Density)
footprint RESC0402(1005)_N (Chip Resistor, Body 1.0x0.5mm, IPC Medium Density)
pins: 1, 2

## RES_0402_150R
designator R?  value 150  (hidden comment: RES_0402_150R)
Chip Resistor 0402  Size; Manufacturer: Cal-Chip Electronics Inc.; Manufacturer P/N: RM04J151CT; Part: 150 Ohm, 5%tol.; ComponentLink1Description: Manufacturer; ComponentLink1URL: http://www.calchip.com; ComponentLink2Description: Datasheet; ComponentLink2URL: https://www.opendatasheets.com/datasheet/rm06j823ct-cal-chip-electronics-25652085.html; Family: Resistor
footprint RESC0402(1005)_L (Chip Resistor, Body 1.0x0.5mm, IPC High Density)
footprint RESC0402(1005)_M (Chip Resistor, Body 1.0x0.5mm, IPC Low Density)
footprint RESC0402(1005)_N (Chip Resistor, Body 1.0x0.5mm, IPC Medium Density)
pins: 1, 2

## RES_0402_169k_1%
designator R?, comment value 169k  (hidden comment: RES_0402_169k)
Chip Resistor 0402  Size; Manufacturer: Cal-Chip Electronics Inc.; Manufacturer P/N: RM04F1693CT-LF; Part: 169 Kohm, 1%tol.; .Checked: 20180221; ComponentLink1Description: Manufacturer; ComponentLink1URL: http://www.calchipelectronics.com; ComponentLink2Description: Datasheet; ComponentLink2URL: https://www.opendatasheets.com/datasheet/rm06j823ct-cal-chip-electronics-25652085.html; Family: Resistor; ComponentLink3Description: Datasheet2; ComponentLink3URL: http://www.calchipelectronics.com/pdf/rm_series.pdf
footprint RESC0402(1005)_L (Chip Resistor, Body 1.0x0.5mm, IPC High Density)
footprint RESC0402(1005)_M (Chip Resistor, Body 1.0x0.5mm, IPC Low Density)
footprint RESC0402(1005)_N (Chip Resistor, Body 1.0x0.5mm, IPC Medium Density)
pins: 1, 2

## RES_0402_180k
designator R?  value 180k  (hidden comment: RES_0402_180k)
Chip Resistor 0402  Size; Manufacturer: Cal-Chip Electronics Inc.; Manufacturer P/N: RM04J184CT; Part: 180 kOhm, 5%tol.; ComponentLink1Description: Manufacturer; ComponentLink1URL: http://www.calchip.com; ComponentLink2Description: Datasheet; ComponentLink2URL: https://www.opendatasheets.com/datasheet/rm06j823ct-cal-chip-electronics-25652085.html; Family: Resistor
footprint RESC0402(1005)_L (Chip Resistor, Body 1.0x0.5mm, IPC High Density)
footprint RESC0402(1005)_M (Chip Resistor, Body 1.0x0.5mm, IPC Low Density)
footprint RESC0402(1005)_N (Chip Resistor, Body 1.0x0.5mm, IPC Medium Density)
pins: 1, 2

## RES_0402_180R
designator R?  value 180  (hidden comment: RES_0402_180R)
Chip Resistor 0402  Size; Manufacturer: Cal-Chip Electronics Inc.; Manufacturer P/N: RM04J181CT; Part: 180 Ohm, 5%tol.; ComponentLink1Description: Manufacturer; ComponentLink1URL: http://www.calchip.com; ComponentLink2Description: Datasheet; ComponentLink2URL: https://www.opendatasheets.com/datasheet/rm06j823ct-cal-chip-electronics-25652085.html; Family: Resistor
footprint RESC0402(1005)_L (Chip Resistor, Body 1.0x0.5mm, IPC High Density)
footprint RESC0402(1005)_M (Chip Resistor, Body 1.0x0.5mm, IPC Low Density)
footprint RESC0402(1005)_N (Chip Resistor, Body 1.0x0.5mm, IPC Medium Density)
pins: 1, 2

## RES_0402_220k
designator R?  value 220k  (hidden comment: RES_0402_220k)
Chip Resistor 0402  Size; Manufacturer: Cal-Chip Electronics Inc.; Manufacturer P/N: RM04J224CT; Part: 220 Kohm, 5%tol.; ComponentLink1Description: Manufacturer; ComponentLink1URL: http://www.calchip.com; ComponentLink2Description: Datasheet; ComponentLink2URL: https://www.opendatasheets.com/datasheet/rm06j823ct-cal-chip-electronics-25652085.html; Family: Resistor
footprint RESC0402(1005)_L (Chip Resistor, Body 1.0x0.5mm, IPC High Density)
footprint RESC0402(1005)_M (Chip Resistor, Body 1.0x0.5mm, IPC Low Density)
footprint RESC0402(1005)_N (Chip Resistor, Body 1.0x0.5mm, IPC Medium Density)
pins: 1, 2

## RES_0402_300R
designator R?  value 300  (hidden comment: RES_0402_300R)
Chip Resistor 0402  Size; Manufacturer: Cal-Chip Electronics Inc.; Manufacturer P/N: RM04J301CT; Part: 300 Ohm, 5%tol.; ComponentLink1Description: Manufacturer; ComponentLink1URL: http://www.calchip.com; ComponentLink2Description: Datasheet; ComponentLink2URL: https://www.opendatasheets.com/datasheet/rm06j823ct-cal-chip-electronics-25652085.html; Family: Resistor
footprint RESC0402(1005)_L (Chip Resistor, Body 1.0x0.5mm, IPC High Density)
footprint RESC0402(1005)_M (Chip Resistor, Body 1.0x0.5mm, IPC Low Density)
footprint RESC0402(1005)_N (Chip Resistor, Body 1.0x0.5mm, IPC Medium Density)
pins: 1, 2

## RES_0402_309k_1%
designator R?, comment value 309k  (hidden comment: RES_0402_309k)
Chip Resistor 0402  Size; Manufacturer: Cal-Chip Electronics Inc.; Manufacturer P/N: RM04F3093CT-LF; Part: 309 Kohm, 1%tol.; ComponentLink1Description: Manufacturer; ComponentLink1URL: http://www.calchip.com; ComponentLink2Description: Datasheet; ComponentLink2URL: https://www.opendatasheets.com/datasheet/rm06j823ct-cal-chip-electronics-25652085.html; Family: Resistor
footprint RESC0402(1005)_L (Chip Resistor, Body 1.0x0.5mm, IPC High Density)
footprint RESC0402(1005)_M (Chip Resistor, Body 1.0x0.5mm, IPC Low Density)
footprint RESC0402(1005)_N (Chip Resistor, Body 1.0x0.5mm, IPC Medium Density)
pins: 1, 2

## RES_0402_330R
designator R?  value 330  (hidden comment: RES_0402_330R)
Chip Resistor 0402  Size; Manufacturer: Cal-Chip Electronics Inc.; Manufacturer P/N: RM04J331CT; Part: 330 Ohm, 5%tol.; ComponentLink1Description: Manufacturer; ComponentLink1URL: http://www.calchip.com; ComponentLink2Description: Datasheet; ComponentLink2URL: https://www.opendatasheets.com/datasheet/rm06j823ct-cal-chip-electronics-25652085.html; Family: Resistor
footprint RESC0402(1005)_L (Chip Resistor, Body 1.0x0.5mm, IPC High Density)
footprint RESC0402(1005)_M (Chip Resistor, Body 1.0x0.5mm, IPC Low Density)
footprint RESC0402(1005)_N (Chip Resistor, Body 1.0x0.5mm, IPC Medium Density)
pins: 1, 2

## RES_0402_390R
designator R?  value 390  (hidden comment: RES_0402_390R)
Chip Resistor 0402  Size; Manufacturer: Cal-Chip Electronics Inc.; Manufacturer P/N: RM04J391CT; Part: 390 Ohm, 5%tol.; ComponentLink1Description: Manufacturer; ComponentLink1URL: http://www.calchip.com; ComponentLink2Description: Datasheet; ComponentLink2URL: https://www.opendatasheets.com/datasheet/rm06j823ct-cal-chip-electronics-25652085.html; Family: Resistor
footprint RESC0402(1005)_L (Chip Resistor, Body 1.0x0.5mm, IPC High Density)
footprint RESC0402(1005)_M (Chip Resistor, Body 1.0x0.5mm, IPC Low Density)
footprint RESC0402(1005)_N (Chip Resistor, Body 1.0x0.5mm, IPC Medium Density)
pins: 1, 2

## RES_0402_470R
designator R?  value 470  (hidden comment: RES_0402_470R)
Chip Resistor 0402  Size; Manufacturer: Cal-Chip Electronics Inc.; Manufacturer P/N: RM04J471CT; Part: 470 Ohm, 5%tol.; ComponentLink1Description: Manufacturer; ComponentLink1URL: http://www.calchip.com; ComponentLink2Description: Datasheet; ComponentLink2URL: https://www.opendatasheets.com/datasheet/rm06j823ct-cal-chip-electronics-25652085.html; Family: Resistor
footprint RESC0402(1005)_L (Chip Resistor, Body 1.0x0.5mm, IPC High Density)
footprint RESC0402(1005)_M (Chip Resistor, Body 1.0x0.5mm, IPC Low Density)
footprint RESC0402(1005)_N (Chip Resistor, Body 1.0x0.5mm, IPC Medium Density)
pins: 1, 2

## RES_0402_475k_1%
designator R?, comment value 475k  (hidden comment: RES_0402_475k)
Chip Resistor 0402  Size; Manufacturer: Cal-Chip Electronics Inc.; Manufacturer P/N: RM04F4753CT-LF; Part: 475 Kohm, 1%tol.; ComponentLink1Description: Manufacturer; ComponentLink1URL: http://www.calchip.com; ComponentLink2Description: Datasheet; ComponentLink2URL: https://www.opendatasheets.com/datasheet/rm06j823ct-cal-chip-electronics-25652085.html; Family: Resistor
footprint RESC0402(1005)_L (Chip Resistor, Body 1.0x0.5mm, IPC High Density)
footprint RESC0402(1005)_M (Chip Resistor, Body 1.0x0.5mm, IPC Low Density)
footprint RESC0402(1005)_N (Chip Resistor, Body 1.0x0.5mm, IPC Medium Density)
pins: 1, 2

## RES_0402_510R
designator R?  value 510  (hidden comment: RES_0402_510R)
Chip Resistor 0402  Size; Manufacturer: Cal-Chip Electronics Inc.; Manufacturer P/N: RM04J511CT; Part: 510 Ohm, 5%tol.; ComponentLink1Description: Manufacturer; ComponentLink1URL: http://www.calchip.com; ComponentLink2Description: Datasheet; ComponentLink2URL: https://www.opendatasheets.com/datasheet/rm06j823ct-cal-chip-electronics-25652085.html; Family: Resistor
footprint RESC0402(1005)_L (Chip Resistor, Body 1.0x0.5mm, IPC High Density)
footprint RESC0402(1005)_M (Chip Resistor, Body 1.0x0.5mm, IPC Low Density)
footprint RESC0402(1005)_N (Chip Resistor, Body 1.0x0.5mm, IPC Medium Density)
pins: 1, 2

## RES_0402_680R
designator R?  value 680  (hidden comment: RES_0402_680R)
Chip Resistor 0402  Size; Manufacturer: Cal-Chip Electronics Inc.; Manufacturer P/N: RM04J681CT; Part: 680 Ohm, 5%tol.; ComponentLink1Description: Manufacturer; ComponentLink1URL: http://www.calchip.com; ComponentLink2Description: Datasheet; ComponentLink2URL: https://www.opendatasheets.com/datasheet/rm06j823ct-cal-chip-electronics-25652085.html; Family: Resistor
footprint RESC0402(1005)_L (Chip Resistor, Body 1.0x0.5mm, IPC High Density)
footprint RESC0402(1005)_M (Chip Resistor, Body 1.0x0.5mm, IPC Low Density)
footprint RESC0402(1005)_N (Chip Resistor, Body 1.0x0.5mm, IPC Medium Density)
pins: 1, 2

## RES_0402_750R
designator R?  value 750  (hidden comment: RES_0402_750R)
Chip Resistor 0402  Size; Manufacturer: Cal-Chip Electronics Inc.; Manufacturer P/N: RM04J751CT; Part: 750 Ohm, 5%tol.; ComponentLink1Description: Manufacturer; ComponentLink1URL: http://www.calchip.com; ComponentLink2Description: Datasheet; ComponentLink2URL: https://www.opendatasheets.com/datasheet/rm06j823ct-cal-chip-electronics-25652085.html; Family: Resistor
footprint RESC0402(1005)_L (Chip Resistor, Body 1.0x0.5mm, IPC High Density)
footprint RESC0402(1005)_M (Chip Resistor, Body 1.0x0.5mm, IPC Low Density)
footprint RESC0402(1005)_N (Chip Resistor, Body 1.0x0.5mm, IPC Medium Density)
pins: 1, 2

## RES_0402_953R_1%
designator R?, comment value 953R  (hidden comment: RES_0402_953R)
Chip Resistor 0402  Size; Manufacturer: Cal-Chip Electronics Inc.; Manufacturer P/N: RM04F9530CT-LF; Part: 953 ohm, 1%tol.; ComponentLink1Description: Manufacturer; ComponentLink1URL: http://www.calchip.com; ComponentLink2Description: Datasheet; ComponentLink2URL: https://www.opendatasheets.com/datasheet/rm06j823ct-cal-chip-electronics-25652085.html; Family: Resistor
footprint RESC0402(1005)_L (Chip Resistor, Body 1.0x0.5mm, IPC High Density)
footprint RESC0402(1005)_M (Chip Resistor, Body 1.0x0.5mm, IPC Low Density)
footprint RESC0402(1005)_N (Chip Resistor, Body 1.0x0.5mm, IPC Medium Density)
pins: 1, 2

## RES_0603
designator R?  value 100k  (hidden comment: RES_0603)
Family: Resistor
pins: 1, 2

## RES_0603_0R
designator R?  value 0R  (hidden comment: RES_0603_0R)
Chip Resistor 0603  Size; Manufacturer: Cal-Chip Electronics Inc.; Manufacturer P/N: RM06J000CT; Part: 0 ohm, 5%tol.; ComponentLink1Description: Manufacturer; ComponentLink1URL: http://www.calchip.com; ComponentLink2Description: Datasheet; ComponentLink2URL: https://www.opendatasheets.com/datasheet/rm06j823ct-cal-chip-electronics-25652085.html; Family: Resistor
footprint RESC0603(1608)_L (Chip Resistor, Body 1.6x0.8mm, IPC High Density)
footprint RESC0603(1608)_M (Chip Resistor, Body 1.6x0.8mm, IPC Low Density)
footprint RESC0603(1608)_N (Chip Resistor, Body 1.6x0.8mm, IPC Medium Density)
pins: 1, 2

## RES_0603_1k
designator R?  value 1k  (hidden comment: RES_0603_1k)
Chip Resistor 0603  Size; Manufacturer: Cal-Chip Electronics Inc.; Manufacturer P/N: RM06J102CT; Part: 1 Kohm, 5%tol.; ComponentLink1Description: Manufacturer; ComponentLink1URL: http://www.calchip.com; ComponentLink2Description: Datasheet; ComponentLink2URL: https://www.opendatasheets.com/datasheet/rm06j823ct-cal-chip-electronics-25652085.html; Family: Resistor
footprint RESC0603(1608)_L (Chip Resistor, Body 1.6x0.8mm, IPC High Density)
footprint RESC0603(1608)_M (Chip Resistor, Body 1.6x0.8mm, IPC Low Density)
footprint RESC0603(1608)_N (Chip Resistor, Body 1.6x0.8mm, IPC Medium Density)
pins: 1, 2

## RES_0603_1k2
designator R?  value 1.2k  (hidden comment: RES_0603_1k2)
Chip Resistor 0603  Size; Manufacturer: Cal-Chip Electronics Inc.; Manufacturer P/N: RM06J122CT; Part: 1.2 Kohm, 5%tol.; ComponentLink1Description: Manufacturer; ComponentLink1URL: http://www.calchip.com; ComponentLink2Description: Datasheet; ComponentLink2URL: https://www.opendatasheets.com/datasheet/rm06j823ct-cal-chip-electronics-25652085.html; Family: Resistor
footprint RESC0603(1608)_L (Chip Resistor, Body 1.6x0.8mm, IPC High Density)
footprint RESC0603(1608)_M (Chip Resistor, Body 1.6x0.8mm, IPC Low Density)
footprint RESC0603(1608)_N (Chip Resistor, Body 1.6x0.8mm, IPC Medium Density)
pins: 1, 2

## RES_0603_1k5_1%
designator R?  value 1.5k  (hidden comment: RES_0603_1k5_1%)
Chip Resistor 0603  Size; Manufacturer: Cal-Chip Electronics Inc.; Manufacturer P/N: RM06F1501CT-LF; Part: 1.5 Kohm, 1%tol.; ComponentLink1Description: Manufacturer; ComponentLink1URL: http://www.calchip.com; ComponentLink2Description: Datasheet; ComponentLink2URL: https://www.opendatasheets.com/datasheet/rm06j823ct-cal-chip-electronics-25652085.html; Family: Resistor
footprint RESC0603(1608)_L (Chip Resistor, Body 1.6x0.8mm, IPC High Density)
footprint RESC0603(1608)_M (Chip Resistor, Body 1.6x0.8mm, IPC Low Density)
footprint RESC0603(1608)_N (Chip Resistor, Body 1.6x0.8mm, IPC Medium Density)
pins: 1, 2

## RES_0603_1k62_1%
designator R?  value 1.62k  (hidden comment: RES_0603_1k62_1%)
Chip Resistor 0603  Size; Manufacturer: Cal-Chip Electronics Inc.; Manufacturer P/N: RM06F1621CT-LF; Part: 1.62 Kohm, 1%tol.; ComponentLink1Description: Manufacturer; ComponentLink1URL: http://www.calchip.com; ComponentLink2Description: Datasheet; ComponentLink2URL: https://www.opendatasheets.com/datasheet/rm06j823ct-cal-chip-electronics-25652085.html; Family: Resistor
footprint RESC0603(1608)_L (Chip Resistor, Body 1.6x0.8mm, IPC High Density)
footprint RESC0603(1608)_M (Chip Resistor, Body 1.6x0.8mm, IPC Low Density)
footprint RESC0603(1608)_N (Chip Resistor, Body 1.6x0.8mm, IPC Medium Density)
pins: 1, 2

## RES_0603_1k87_1%
designator R?  value 1.87k  (hidden comment: RES_0603_1k87_1%)
Chip Resistor 0603  Size; Manufacturer: Cal-Chip Electronics Inc.; Manufacturer P/N: RM06F1871CT-LF; Part: 1.87 Kohm, 1%tol.; ComponentLink1Description: Manufacturer; ComponentLink1URL: http://www.calchip.com; ComponentLink2Description: Datasheet; ComponentLink2URL: https://www.opendatasheets.com/datasheet/rm06j823ct-cal-chip-electronics-25652085.html; Family: Resistor
footprint RESC0603(1608)_L (Chip Resistor, Body 1.6x0.8mm, IPC High Density)
footprint RESC0603(1608)_M (Chip Resistor, Body 1.6x0.8mm, IPC Low Density)
footprint RESC0603(1608)_N (Chip Resistor, Body 1.6x0.8mm, IPC Medium Density)
pins: 1, 2

## RES_0603_1k96_1%
designator R?  value 1.96k  (hidden comment: RES_0603_1k96_1%)
Chip Resistor 0603  Size; Manufacturer: Cal-Chip Electronics Inc.; Manufacturer P/N: RM06F1961CT-LF; Part: 1.96 Kohm, 1%tol.; ComponentLink1Description: Manufacturer; ComponentLink1URL: http://www.calchip.com; ComponentLink2Description: Datasheet; ComponentLink2URL: https://www.opendatasheets.com/datasheet/rm06j823ct-cal-chip-electronics-25652085.html; Family: Resistor
footprint RESC0603(1608)_L (Chip Resistor, Body 1.6x0.8mm, IPC High Density)
footprint RESC0603(1608)_M (Chip Resistor, Body 1.6x0.8mm, IPC Low Density)
footprint RESC0603(1608)_N (Chip Resistor, Body 1.6x0.8mm, IPC Medium Density)
pins: 1, 2